# Altium footprint library PCB - LEADED - SOIC-8_W.PCBLIB: 1 footprints
Each footprint in its own frame and in the unit in brackets; x right, y up, seen from the top. Pads: shape width x height; smd on the part's side, far side on the other; paste and mask are expansions set on the pad; w line width, h text height; cw(c..) or ccw(c..) is an arc to the next point about the centre after c.
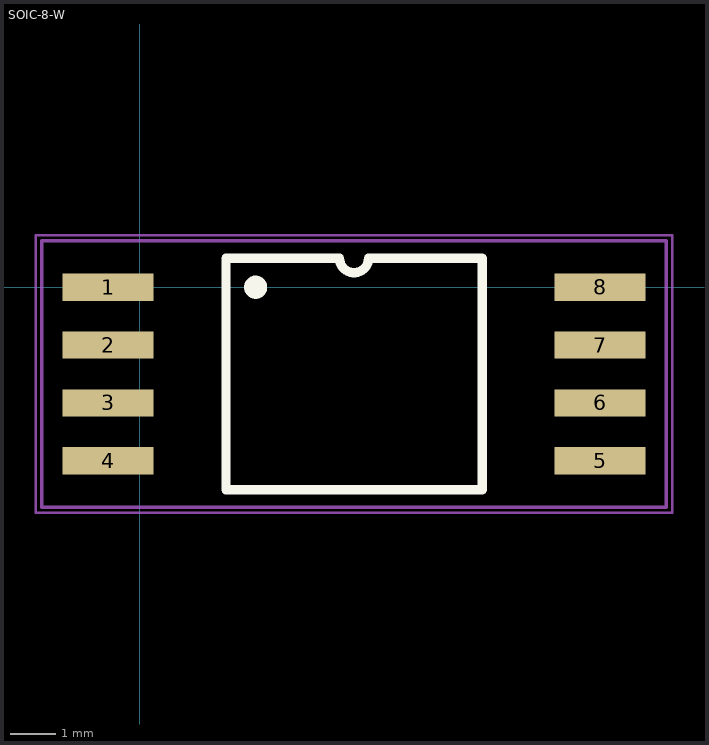
[diagram p0: the footprint, top view; thin cyan lines are the x and y axes]

## SOIC-8-W [mm] "SMD Small Outline IC 16 pin Wide"
height 10.3
pads (8):
  rect 2x0.6 smd: 1(-0.7,0) 2(-0.7,-1.27) 3(-0.7,-2.54) 4(-0.7,-3.81) 5(10.1,-3.81) 6(10.1,-2.54) 7(10.1,-1.27) 8(10.1,0)
Top Overlay:
  circle w0.254: c2.54,0 r0.127
  lines w0.203: 1.888,-4.445 7.512,-4.445 7.512,0.635 5.018,0.635 cw(c4.7,0.635) 4.383,0.635 1.888,0.635 1.888,-4.445
Top Assembly:
  lines w0.076: -2.159,-4.826 -2.159,1.016 11.557,1.016 11.557,-4.826 -2.159,-4.826
  text ".Designator" at -1.27,1.778 h1.52
Top Courtyard (Mech7):
  lines w0.051: -2.286,-4.953 11.684,-4.953 11.684,1.143 -2.286,1.143 -2.286,-4.953
3D body "SOIC-8 Wide.STEP": height 1.7, standoff 0, extent -0.622,-4.318 10.021,0.508